# Altium integrated library 5-535541-6.IntLib: 1 symbol
Pins are listed as number, name and electrical type; pins without a type are passive.

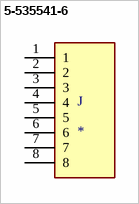
[diagram p0: symbol 5-535541-6]

## 5-535541-6
designator J
Connector Socket Strip RCP 8 POS 2.54mm Solder ST Thru-Hole Gang of Tubes; MF: TE Connectivity; MP: 5-535541-6; SnapEDA_Link: https://www.snapeda.com/parts/5-535541-6/TE%20Connectivity%20AMP%20Connectors/view-part/497141/?ref=snap; Price: None; Availability: Unavailable; Package: None; Value: *
footprint TE_5-535541-6
pins: 1, 2, 3, 4, 5, 6, 7, 8